# EAGLE library part SN74LVC8T245 (library SN74LVC8T245)
Check availability <https://pricing.snapeda.com/parts/SN74LVC8T245/Texas%20Instruments/view-part?ref=eda>
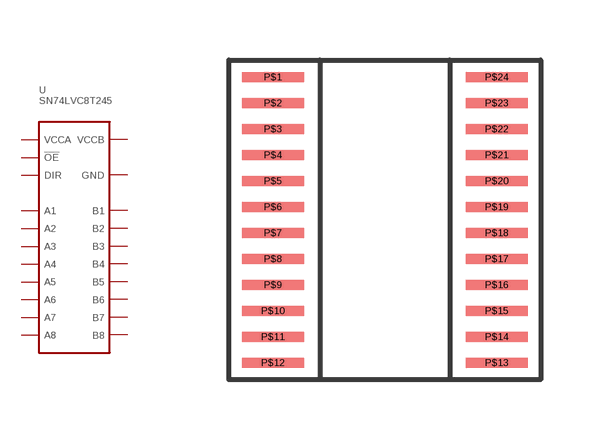
[diagram p0: symbol with the pads of TTSOP-24; footprint TTSOP-24]

Designator prefix U

## SN74LVC8T245PWR (Availability: Not in stock; Check_prices: https://www.snapeda.com/parts/SN74LVC8T245/Texas+Instruments/view-part/?ref=eda; Description: Voltage Level Translator 8-CH Bidirectional 24-Pin SOIC T/R; MF: Texas Instruments; MP: SN74LVC8T245; Package: None; Price: None; SnapEDA_Link: https://www.snapeda.com/parts/SN74LVC8T245/Texas+Instruments/view-part/?ref=snap)  [TTSOP-24]
P$1  VCCA
P$2  DIR
P$3  A1
P$4  A2
P$5  A3
P$6  A4
P$7  A5
P$8  A6
P$9  A7
P$10  A8
P$11  GND
P$12  GND
P$13  GND
P$14  B8
P$15  B7
P$16  B6
P$17  B5
P$18  B4
P$19  B3
P$20  B2
P$21  B1
P$22  !OE
P$23  VCCB
P$24  VCCB

## Footprint TTSOP-24 (pad centres in mm)
smd 1.55 x 0.25: P$1 -2.8,3.575; P$2 -2.8,2.925; P$3 -2.8,2.275; P$4 -2.8,1.625; P$5 -2.8,0.975; P$6 -2.8,0.325; P$7 -2.8,-0.325; P$8 -2.8,-0.975; P$9 -2.8,-1.625; P$10 -2.8,-2.275; P$11 -2.8,-2.925; P$12 -2.8,-3.575; P$13 2.8,-3.575; P$14 2.8,-2.925; P$15 2.8,-2.275; P$16 2.8,-1.625; P$17 2.8,-0.975; P$18 2.8,-0.325; P$19 2.8,0.325; P$20 2.8,0.975; P$21 2.8,1.625; P$22 2.8,2.275; P$23 2.8,2.925; P$24 2.8,3.575